# Altium footprint library MicroLPR_DSP.PcbLib: 41 footprints (part 2 of 3)
Each footprint in its own frame and in the unit in brackets; x right, y up, seen from the top. Pads: shape width x height; smd on the part's side, far side on the other; paste and mask are expansions set on the pad; w line width, h text height; cw(c..) or ccw(c..) is an arc to the next point about the centre after c.
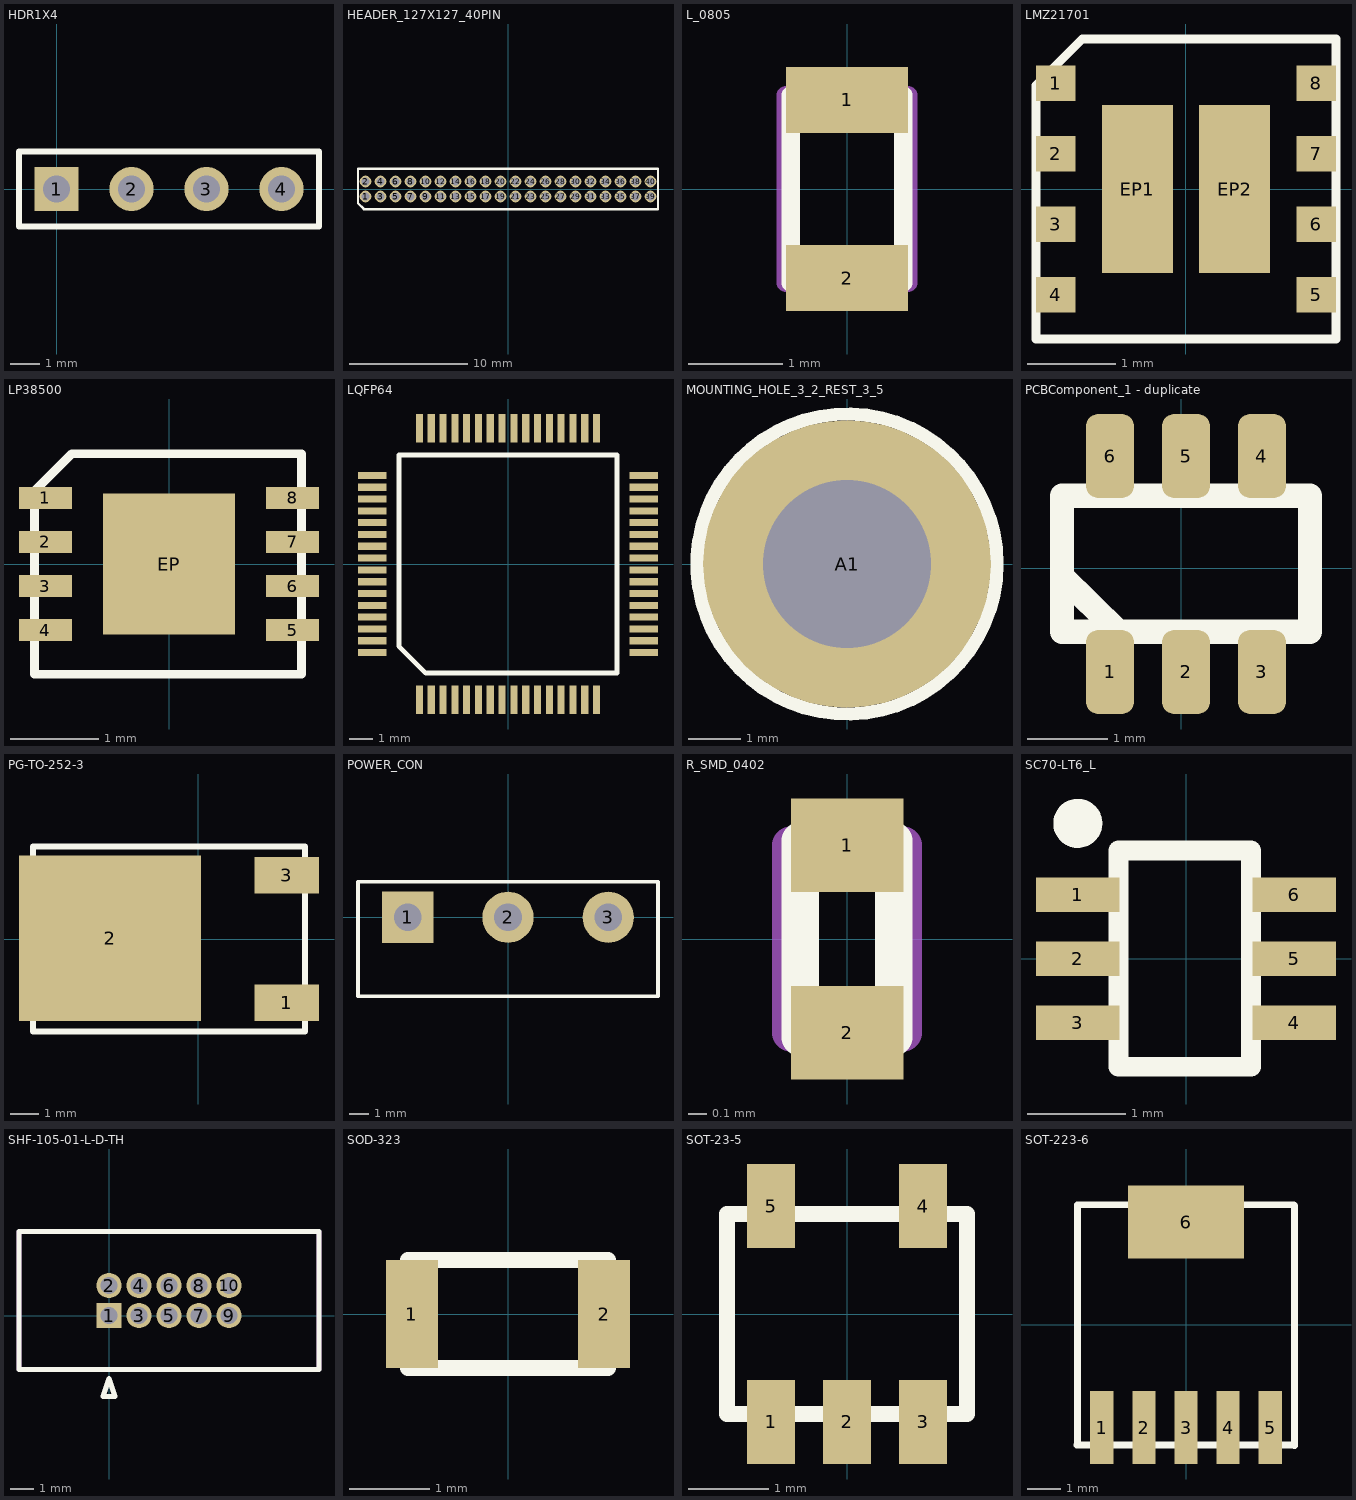
[diagram p1: the footprints below, top view; thin cyan lines are the x and y axes]

## HDR1X4 [mm] "Connector; Header; 4 Position"
pads (4):
  rect 1.5x1.5 hole 0.9: 1(0,0)
  round 1.5 hole 0.9: 2(2.54,0) 3(5.08,0) 4(7.62,0)
Top Overlay:
  lines w0.2: -1.27,-1.27 -1.27,1.27 8.89,1.27 8.89,-1.27 -1.27,-1.27
3D body "TSW-104-08-X-S.step": height 8.38, standoff -5.08, extent -1.27,-1.27 8.89,1.27

## HEADER_127X127_40PIN [mm]
pads (40):
  round 1 hole 0.65: 1(-12.065,-0.635) 2(-12.065,0.635) 3(-10.795,-0.635) 4(-10.795,0.635) 5(-9.525,-0.635) 6(-9.525,0.635) 7(-8.255,-0.635) 8(-8.255,0.635) 9(-6.985,-0.635) 10(-6.985,0.635) 11(-5.715,-0.635) 12(-5.715,0.635) 13(-4.445,-0.635) 14(-4.445,0.635) 15(-3.175,-0.635) 16(-3.175,0.635) 17(-1.905,-0.635) 18(-1.905,0.635) 19(-0.635,-0.635) 20(-0.635,0.635) 21(0.635,-0.635) 22(0.635,0.635) 23(1.905,-0.635) 24(1.905,0.635) 25(3.175,-0.635) 26(3.175,0.635) 27(4.445,-0.635) 28(4.445,0.635) 29(5.715,-0.635) 30(5.715,0.635) 31(6.985,-0.635) 32(6.985,0.635) 33(8.255,-0.635) 34(8.255,0.635) 35(9.525,-0.635) 36(9.525,0.635) 37(10.795,-0.635) 38(10.795,0.635) 39(12.065,-0.635) 40(12.065,0.635)
Top Overlay:
  lines w0.2: -12.7,-1.2 -12.2,-1.7 12.7,-1.7 12.7,1.7 -12.7,1.7 -12.7,-1.2
3D body "2002111100040T8LF.stp": height 5.5, standoff -2.35, extent -12.7,-1.7 12.7,1.7

## L_0805 [mm]
pads (2):
  rect 1.3x0.7 smd: 1(0,0.95) 2(0,-0.95)
Top Overlay:
  lines w0.2: -0.6,-1 -0.6,1 0.6,1 0.6,-1 -0.6,-1
Mechanical 1:
  lines w0.2: -0.65,-1 0.65,-1 0.65,1 -0.65,1 -0.65,-1
3D body "L0805.step": height 1.3, standoff 0, extent -0.6,-1 0.6,1

## LMZ21701 [mm]
pads (10):
  rect 0.45x0.4 smd: 1(-1.475,1.2) 2(-1.475,0.4) 3(-1.475,-0.4) 4(-1.475,-1.2) 5(1.475,-1.2) 6(1.475,-0.4) 7(1.475,0.4) 8(1.475,1.2)
  rect 0.8x1.9 smd: EP1(-0.55,0) EP2(0.55,0)
Top Overlay:
  lines w0.1: -1.7,-1.7 -1.7,1.175 -1.175,1.7 1.7,1.7 1.7,-1.7 -1.7,-1.7
3D body "LMZ21701.step": height 1.75, standoff -0.05, extent -1.75,-1.75 1.75,1.75

## LP38500 [mm]
pads (9):
  rect 0.6x0.25 smd: 1(-1.4,0.75) 2(-1.4,0.25) 3(-1.4,-0.25) 4(-1.4,-0.75) 5(1.4,-0.75) 6(1.4,-0.25) 7(1.4,0.25) 8(1.4,0.75)
  rect 1.5x1.6 smd: EP(0,0)
Top Overlay:
  lines w0.1: -1.075,1.25 -1.1,1.25 ; 1.475,-1.25 -1.525,-1.25 -1.525,0.825 -1.1,1.25 ; 1.5,-1.25 1.5,1.25 -1.1,1.25
3D body "wson8.setp.step": height 0.8, standoff 0, extent -1.55,-1.55 1.55,1.55

## LQFP64 [mm]
pads (64):
  rect 0.3x1.2 smd: 1(-3.75,-5.75) 2(-3.25,-5.75) 3(-2.75,-5.75) 4(-2.25,-5.75) 5(-1.75,-5.75) 6(-1.25,-5.75) 7(-0.75,-5.75) 8(-0.25,-5.75) 9(0.25,-5.75) 10(0.75,-5.75) 11(1.25,-5.75) 12(1.75,-5.75) 13(2.25,-5.75) 14(2.75,-5.75) 15(3.25,-5.75) 16(3.75,-5.75) 33(3.75,5.75) 34(3.25,5.75) 35(2.75,5.75) 36(2.25,5.75) 37(1.75,5.75) 38(1.25,5.75) 39(0.75,5.75) 40(0.25,5.75) 41(-0.25,5.75) 42(-0.75,5.75) 43(-1.25,5.75) 44(-1.75,5.75) 45(-2.25,5.75) 46(-2.75,5.75) 47(-3.25,5.75) 48(-3.75,5.75)
  rect 1.2x0.3 smd: 17(5.75,-3.75) 18(5.75,-3.25) 19(5.75,-2.75) 20(5.75,-2.25) 21(5.75,-1.75) 22(5.75,-1.25) 23(5.75,-0.75) 24(5.75,-0.25) 25(5.75,0.25) 26(5.75,0.75) 27(5.75,1.25) 28(5.75,1.75) 29(5.75,2.25) 30(5.75,2.75) 31(5.75,3.25) 32(5.75,3.75) 49(-5.75,3.75) 50(-5.75,3.25) 51(-5.75,2.75) 52(-5.75,2.25) 53(-5.75,1.75) 54(-5.75,1.25) 55(-5.75,0.75) 56(-5.75,0.25) 57(-5.75,-0.25) 58(-5.75,-0.75) 59(-5.75,-1.25) 60(-5.75,-1.75) 61(-5.75,-2.25) 62(-5.75,-2.75) 63(-5.75,-3.25) 64(-5.75,-3.75)
Top Overlay:
  lines w0.2: -4.615,-3.48 -4.615,4.615 4.615,4.615 4.615,-4.615 -3.48,-4.615 -4.615,-3.48
3D body "LQFP-64-1.step": height 1.5, standoff 0, extent -5.975,-5 6.025,5

## MOUNTING_HOLE_3_2_REST_3_5 [mm]
pads (1):
  round 5.5 hole 3.2: A1(0,0)
Top Overlay:
  circle w0.254: c0,0 r2.865

## PCBComponent_1 - duplicate [mm]
pads (6):
  rrect50% 0.6x1.05 smd: 1(-0.889,-1.295) 2(0.061,-1.295) 3(1.011,-1.295) 4(1.011,1.405) 5(0.061,1.405) 6(-0.889,1.405)
Top Overlay:
  lines w0.305: -1.489,-0.102 -0.787,-0.794 ; -1.489,-0.794 1.611,-0.794 1.611,0.906 -1.489,0.906 -1.489,-0.794
3D body: height 1.45, standoff 0, extent -1.473,-0.813 1.651,0.889

## PG-TO-252-3 [mm]
pads (3):
  rect 2.3x1.3 smd: 1(3.15,-2.28) 3(3.15,2.28)
  rect 6.5x5.9 smd: 2(-3.15,0.02)
Top Overlay:
  lines w0.2: -5.9,-3.3 3.8,-3.3 3.8,3.3 -5.9,3.3 -5.9,-3.3
3D body "TO-252.step": height 2.3, standoff 0, extent -5.927,-3.29 3.773,3.29

## POWER_CON [mm]
pads (3):
  rect 2.6x2.6 hole 1.4: 1(-5.08,0)
  round 2.6 hole 1.4: 2(0,0) 3(5.08,0)
Top Overlay:
  lines w0.2: -7.6,-4 7.6,-4 7.6,1.8 -7.6,1.8 -7.6,-4
3D body "Phoenix Contact MSTB-2_5_3G.step": height 8.6, standoff -3.5, extent -7.62,-10.2 7.62,1.8

## R_SMD_0402 [mm]
pads (2):
  rect 0.6x0.5 smd: 1(0,0.5) 2(0,-0.5)
Top Overlay:
  lines w0.2: -0.25,-0.525 0.25,-0.525 0.25,0.525 -0.25,0.525 -0.25,-0.525
Mechanical 1:
  lines w0.2: -0.3,-0.5 -0.3,0.5 0.3,0.5 0.3,-0.5 -0.3,-0.5
3D body "User Library-Resistors_0402.step": height 0.36, standoff -0.01, extent -0.263,-0.525 0.262,0.525

## SC70-LT6_L [mm] "SC70, 6-Leads, Body 2,2x2,4mm (max), Pitch 0,65mm, IPC Medium Density"
height 1.1
pads (6):
  rect 0.85x0.35 smd: 1(-1.1,0.65) 2(-1.1,0) 3(-1.1,-0.65) 4(1.1,-0.65) 5(1.1,0) 6(1.1,0.65)
Top Overlay:
  circle w0.25: c-1.1,1.375 r0.125
  lines w0.2: -0.686,-1.1 0.66,-1.1 0.66,1.1 -0.686,1.1 -0.686,-1.1
Mechanical 13:
  lines w0.1: -0.7,-1.075 0.7,-1.075 0.7,1.075 -0.7,1.075 -0.7,-1.075
3D body: height 1.1, standoff 0, extent -0.7,-1.075 0.7,1.075

## SHF-105-01-L-D-TH [mil] "Samtec SHF-105-01-L-D-TH"
height 39.37
pads (10):
  rect 42x42 / inner round 42 / far side rect 42x42 hole 29 mask+2: 1(0,0)
  round 42 hole 29 mask+2: 2(0,50) 3(50,0) 4(50,50) 5(100,0) 6(100,50) 7(150,0) 8(150,50) 9(200,0) 10(200,50)
Top Overlay:
  lines w8: -150,-90 350,-90 350,140 -150,140 -150,-90 ; -10,-135 10,-135 0,-105 -10,-135
Mechanical 1:
  lines w8: -150,-90 350,-90 350,140 -150,140 -150,-90
Mechanical 13:
  lines w8: -150,-90 350,-90 350,140 -150,140 -150,-90
3D body "SHF-105-01-L-D-TH.stp": height 210, standoff -75, extent -149.61,-74.49 350.39,145.51

## SOD-323 [mm]
pads (2):
  rect 0.65x1.35 smd: 1(-1.2,0) 2(1.2,0)
Top Overlay:
  lines w0.2: -1.25,-0.675 -1.25,0.675 1.25,0.675 1.25,-0.675 -1.25,-0.675
3D body "SOD323F-1.step": height 1, standoff 0, extent -1.25,-0.675 1.25,0.675

## SOT-23-5 [mm]
pads (5):
  rect 0.6x1.05 smd: 1(-0.95,-1.35) 2(0,-1.35) 3(0.95,-1.35) 4(0.95,1.35) 5(-0.95,1.35)
Top Overlay:
  lines w0.2: -1.5,-1.25 -1.5,1.25 1.5,1.25 1.5,-1.25 -1.5,-1.25
3D body "SOT-23-5.step": height 1.09, standoff -0.01, extent -1.5,-1.25 1.5,1.25

## SOT-223-6 [mm]
pads (6):
  rect 0.7x2.2 smd: 1(-2.54,-3.1) 2(-1.27,-3.1) 3(0,-3.1) 4(1.27,-3.1) 5(2.54,-3.1)
  rect 3.5x2.2 smd: 6(0,3.1)
Top Overlay:
  lines w0.2: -3.3,-3.625 -3.275,-3.6 -3.275,3.625 3.25,3.625 3.275,3.6 3.275,-3.65 3.25,-3.625 -3.3,-3.625
3D body "SOT-223-6.step": height 1.8, standoff 0, extent -3.275,-3.63 3.275,3.63